# EAGLE library part JTAG (library senior-design)
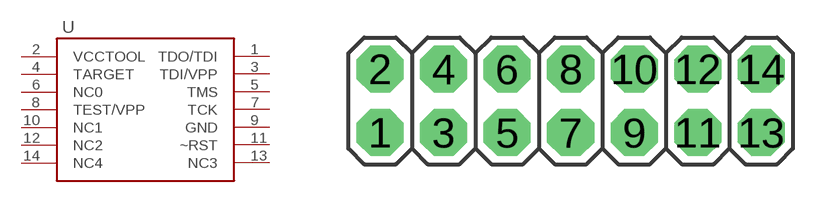
[diagram p0: symbol with the pads of 2X7; footprint 2X7]

Designator prefix -

## JTAG  [2X7]
1  TDO/TDI
2  VCCTOOL
3  TDI/VPP
4  TARGET
5  TMS
6  NC0
7  TCK
8  TEST/VPP
9  GND
10  NC1
11  ~RST
12  NC2
13  NC3
14  NC4

## Footprint 2X7 (pad centres in mm)
drill 1.016 pad 1.88 octagon: 1 0,0; 2 0,2.54; 3 2.54,0; 4 2.54,2.54; 5 5.08,0; 6 5.08,2.54; 7 7.62,0; 8 7.62,2.54; 9 10.16,0; 10 10.16,2.54; 11 12.7,0; 12 12.7,2.54; 13 15.24,0; 14 15.24,2.54